# Altium schematic symbol library GRM31CR60J107ME39L.SchLib: 1 symbol
Pins are listed as number, name and electrical type; pins without a type are passive.

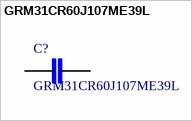
[diagram p0: symbol GRM31CR60J107ME39L]

## GRM31CR60J107ME39L
designator C?
1206 100 uF 6.3 V 卤20% Tolerance X5R SMT Multilayer Ceramic Capacitor; MF: Murata; MP: GRM31CR60J107ME39L; Digi-Key_Purchase_URL: https://www.digikey.se/product-detail/en/murata-electronics-north-america/GRM31CR60J107ME39L/490-4539-1-ND/1033313?WT.z_cid=ref_snapeda&utm_source=snapeda&utm_medium=aggregator&utm_campaign=buynow; Package: 1206 Murata; Digi-Key_Part_Number: 490-4539-1-ND; Value: *
footprint CAPC3216X190
pins: 1, 2